# Altium integrated library LQW15AN2N2B80D.IntLib: 1 symbol
Pins are listed as number, name and electrical type; pins without a type are passive.

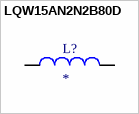
[diagram p0: symbol LQW15AN2N2B80D]

## LQW15AN2N2B80D
designator L?
Inductor with Inductance: 2.2nH Tol. +/-0.1nH, Package: 0402 (1005); MF: Murata Electronics; MP: LQW15AN2N2B80D; Package: 1006 Murata; Check_prices: https://www.snapeda.com/parts/LQW15AN2N2B80D/Murata%20Electronics%20North%20America/view-part/1522880/?ref=eda; Availability: Good; Value: *; Purchase-URL: https://pricing.snapeda.com/search/part/LQW15AN2N2B80D/?ref=eda; Price: None; SnapEDA_Link: https://www.snapeda.com/parts/LQW15AN2N2B80D/Murata%20Electronics%20North%20America/view-part/1522880/?ref=snap
footprint INDC1006X60N
pins: 1, 2